# Altium footprint library pga_socket_square_208pin_17x17_minus_9x9.PcbLib: 2 footprints
Each footprint in its own frame and in the unit in brackets; x right, y up, seen from the top. Pads: shape width x height; smd on the part's side, far side on the other; paste and mask are expansions set on the pad; w line width, h text height; cw(c..) or ccw(c..) is an arc to the next point about the centre after c.
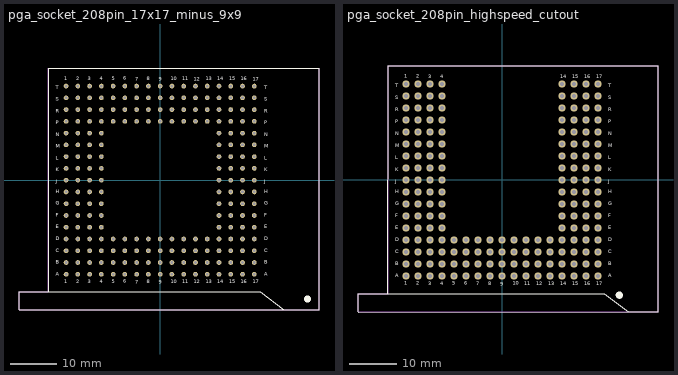
[diagram p0: the footprints below, top view; thin cyan lines are the x and y axes]

## pga_socket_208pin_17x17_minus_9x9 [mil]
pads (208):
  round 40 hole 22: A1(-800,-800) A2(-700,-800) A3(-600,-800) A4(-500,-800) A5(-400,-800) A6(-300,-800) A7(-200,-800) A8(-100,-800) A9(0,-800) A10(100,-800) A11(200,-800) A12(300,-800) A13(400,-800) A14(500,-800) A15(600,-800) A16(700,-800) A17(800,-800) B1(-800,-700) B2(-700,-700) B3(-600,-700) B4(-500,-700) B5(-400,-700) B6(-300,-700) B7(-200,-700) B8(-100,-700) B9(0,-700) B10(100,-700) B11(200,-700) B12(300,-700) B13(400,-700) B14(500,-700) B15(600,-700) B16(700,-700) B17(800,-700) C1(-800,-600) C2(-700,-600) C3(-600,-600) C4(-500,-600) C5(-400,-600) C6(-300,-600) C7(-200,-600) C8(-100,-600) C9(0,-600) C10(100,-600) C11(200,-600) C12(300,-600) C13(400,-600) C14(500,-600) C15(600,-600) C16(700,-600) C17(800,-600) D1(-800,-500) D2(-700,-500) D3(-600,-500) D4(-500,-500) D5(-400,-500) D6(-300,-500) D7(-200,-500) D8(-100,-500) D9(0,-500) D10(100,-500) D11(200,-500) D12(300,-500) D13(400,-500) D14(500,-500) D15(600,-500) D16(700,-500) D17(800,-500) E1(-800,-400) E2(-700,-400) E3(-600,-400) E4(-500,-400) E14(500,-400) E15(600,-400) E16(700,-400) E17(800,-400) F1(-800,-300) F2(-700,-300) F3(-600,-300) F4(-500,-300) F14(500,-300) F15(600,-300) F16(700,-300) F17(800,-300) G1(-800,-200) G2(-700,-200) G3(-600,-200) G4(-500,-200) G14(500,-200) G15(600,-200) G16(700,-200) G17(800,-200) H1(-800,-100) H2(-700,-100) H3(-600,-100) H4(-500,-100) H14(500,-100) H15(600,-100) H16(700,-100) H17(800,-100) J1(-800,0) J2(-700,0) J3(-600,0) J4(-500,0) J14(500,0) J15(600,0) J16(700,0) J17(800,0) K1(-800,100) K2(-700,100) K3(-600,100) K4(-500,100) K14(500,100) K15(600,100) K16(700,100) K17(800,100) L1(-800,200) L2(-700,200) L3(-600,200) L4(-500,200) L14(500,200) L15(600,200) L16(700,200) L17(800,200) M1(-800,300) M2(-700,300) M3(-600,300) M4(-500,300) M14(500,300) M15(600,300) M16(700,300) M17(800,300) N1(-800,400) N2(-700,400) N3(-600,400) N4(-500,400) N14(500,400) N15(600,400) N16(700,400) N17(800,400) P1(-800,500) P2(-700,500) P3(-600,500) P4(-500,500) P5(-400,500) P6(-300,500) P7(-200,500) P8(-100,500) P9(0,500) P10(100,500) P11(200,500) P12(300,500) P13(400,500) P14(500,500) P15(600,500) P16(700,500) P17(800,500) R1(-800,600) R2(-700,600) R3(-600,600) R4(-500,600) R5(-400,600) R6(-300,600) R7(-200,600) R8(-100,600) R9(0,600) R10(100,600) R11(200,600) R12(300,600) R13(400,600) R14(500,600) R15(600,600) R16(700,600) R17(800,600) S1(-800,700) S2(-700,700) S3(-600,700) S4(-500,700) S5(-400,700) S6(-300,700) S7(-200,700) S8(-100,700) S9(0,700) S10(100,700) S11(200,700) S12(300,700) S13(400,700) S14(500,700) S15(600,700) S16(700,700) S17(800,700) T1(-800,800) T2(-700,800) T3(-600,800) T4(-500,800) T5(-400,800) T6(-300,800) T7(-200,800) T8(-100,800) T9(0,800) T10(100,800) T11(200,800) T12(300,800) T13(400,800) T14(500,800) T15(600,800) T16(700,800) T17(800,800)
Top Overlay:
  circle w30: c1252.5,-1010 r15
  lines w10: 1050,-1100 850,-950 -950,-950 ; -950,-950 -1200,-950 -1200,-1100 1350,-1100 1350,950 -950,950 -950,-950
  text "17" at 786.25,847.19 h31.25
  text "14" at 486.25,849.53 h31.25
  text "13" at 386.25,847.97 h31.25
  text "9" at -13.75,845.62 h31.25
  text "10" at 89.38,850.31 h31.25
  text "5" at -413.75,850.31 h31.25
  text "16" at 686.25,849.53 h31.25
  text "15" at 586.25,849.53 h31.25
  text "12" at 286.25,847.19 h31.25
  text "11" at 186.25,849.53 h31.25
  text "8" at -113.75,849.53 h31.25
  text "7" at -213.75,846.41 h31.25
  text "6" at -313.75,851.88 h31.25
  text "4" at -513.75,849.53 h31.25
  text "3" at -613.75,849.53 h31.25
  text "2" at -713.75,850.31 h31.25
  text "1" at -813.75,850.31 h31.25
  text "B" at -888.75,-710.62 h31.25
  text "C" at -888.75,-610.62 h31.25
  text "F" at -888.75,-310.62 h31.25
  text "G" at -888.75,-210.62 h31.25
  text "L" at -888.75,173.75 h31.25
  text "M" at -888.75,273.75 h31.25
  text "R" at -888.75,573.75 h31.25
  text "S" at -888.75,673.75 h31.25
  text "A" at -888.75,-810.62 h31.25
  text "E" at -888.75,-410.62 h31.25
  text "D" at -888.75,-510.62 h31.25
  text "H" at -888.75,-110.62 h31.25
  text "J" at -888.75,-26.25 h31.25
  text "K" at -888.75,73.75 h31.25
  text "P" at -888.75,473.75 h31.25
  text "N" at -888.75,373.75 h31.25
  text "T" at -888.75,773.75 h31.25
  text "1" at -813.75,-874.69 h31.25
  text "2" at -713.75,-874.69 h31.25
  text "3" at -613.75,-875.47 h31.25
  text "4" at -513.75,-875.47 h31.25
  text "6" at -313.75,-873.12 h31.25
  text "7" at -213.75,-878.59 h31.25
  text "8" at -113.75,-875.47 h31.25
  text "11" at 186.25,-875.47 h31.25
  text "12" at 286.25,-877.81 h31.25
  text "15" at 586.25,-875.47 h31.25
  text "16" at 686.25,-875.47 h31.25
  text "5" at -413.75,-874.69 h31.25
  text "10" at 89.38,-874.69 h31.25
  text "9" at -13.75,-879.38 h31.25
  text "13" at 386.25,-877.03 h31.25
  text "14" at 486.25,-875.47 h31.25
  text "17" at 786.25,-877.81 h31.25
  text "T" at 886.25,773.75 h31.25
  text "N" at 886.25,373.75 h31.25
  text "P" at 886.25,473.75 h31.25
  text "K" at 886.25,73.75 h31.25
  text "J" at 886.25,-26.25 h31.25
  text "H" at 886.25,-110.62 h31.25
  text "D" at 886.25,-510.62 h31.25
  text "E" at 886.25,-410.62 h31.25
  text "A" at 886.25,-810.62 h31.25
  text "S" at 886.25,673.75 h31.25
  text "R" at 886.25,573.75 h31.25
  text "M" at 886.25,273.75 h31.25
  text "L" at 886.25,173.75 h31.25
  text "G" at 886.25,-210.62 h31.25
  text "F" at 886.25,-310.62 h31.25
  text "C" at 886.25,-610.62 h31.25
  text "B" at 886.25,-710.62 h31.25
Bottom Overlay:
  circle w30: c1252.5,-1010 r15
  text "17" at 811.25,847.19 h31.25
  text "14" at 511.25,849.53 h31.25
  text "15" at 611.25,849.53 h31.25
  text "11" at 211.25,849.53 h31.25
  text "12" at 311.25,847.19 h31.25
  text "8" at -88.75,849.53 h31.25
  text "9" at 11.25,845.62 h31.25
  text "5" at -388.75,850.31 h31.25
  text "6" at -288.75,851.88 h31.25
  text "2" at -688.75,850.31 h31.25
  text "3" at -588.75,849.53 h31.25
  text "10" at 114.38,850.31 h31.25
  text "13" at 411.25,847.97 h31.25
  text "16" at 711.25,849.53 h31.25
  text "4" at -488.75,849.53 h31.25
  text "7" at -188.75,846.41 h31.25
  text "1" at -788.75,850.31 h31.25
  text "A" at 911.25,-810.62 h31.25
  text "D" at 911.25,-510.62 h31.25
  text "C" at 911.25,-610.62 h31.25
  text "G" at 911.25,-210.62 h31.25
  text "F" at 911.25,-310.62 h31.25
  text "K" at 911.25,73.75 h31.25
  text "J" at 911.25,-26.25 h31.25
  text "N" at 911.25,373.75 h31.25
  text "M" at 911.25,273.75 h31.25
  text "S" at 911.25,673.75 h31.25
  text "R" at 911.25,573.75 h31.25
  text "L" at 911.25,173.75 h31.25
  text "H" at 911.25,-110.62 h31.25
  text "E" at 911.25,-410.62 h31.25
  text "B" at 911.25,-710.62 h31.25
  text "T" at 911.25,773.75 h31.25
  text "P" at 911.25,473.75 h31.25
  text "P" at -863.75,473.75 h31.25
  text "T" at -863.75,773.75 h31.25
  text "B" at -863.75,-710.62 h31.25
  text "E" at -863.75,-410.62 h31.25
  text "H" at -863.75,-110.62 h31.25
  text "L" at -863.75,173.75 h31.25
  text "1" at -788.75,-874.69 h31.25
  text "7" at -188.75,-878.59 h31.25
  text "4" at -488.75,-875.47 h31.25
  text "16" at 711.25,-875.47 h31.25
  text "13" at 411.25,-877.03 h31.25
  text "10" at 114.38,-874.69 h31.25
  text "R" at -863.75,573.75 h31.25
  text "S" at -863.75,673.75 h31.25
  text "M" at -863.75,273.75 h31.25
  text "N" at -863.75,373.75 h31.25
  text "J" at -863.75,-26.25 h31.25
  text "K" at -863.75,73.75 h31.25
  text "F" at -863.75,-310.62 h31.25
  text "G" at -863.75,-210.62 h31.25
  text "C" at -863.75,-610.62 h31.25
  text "D" at -863.75,-510.62 h31.25
  text "A" at -863.75,-810.62 h31.25
  text "3" at -588.75,-875.47 h31.25
  text "2" at -688.75,-874.69 h31.25
  text "6" at -288.75,-873.12 h31.25
  text "5" at -388.75,-874.69 h31.25
  text "9" at 11.25,-879.38 h31.25
  text "8" at -88.75,-875.47 h31.25
  text "12" at 311.25,-877.81 h31.25
  text "11" at 211.25,-875.47 h31.25
  text "15" at 611.25,-875.47 h31.25
  text "14" at 511.25,-875.47 h31.25
  text "17" at 811.25,-877.81 h31.25
Mechanical 1:
  lines w6: -1200,-950 -950,-950 ; -1200,-950 -1200,-1100 1350,-1100 1350,950 -950,950 -950,-950 ; -1200,-950 -950,-950

## pga_socket_208pin_highspeed_cutout [mil]
pads (172):
  round 60 / inner round 40 / far side round 60 hole 32 mask+0: A1(-800,-800) A2(-700,-800) A3(-600,-800) A4(-500,-800) A5(-400,-800) A6(-300,-800) A7(-200,-800) A8(-100,-800) A9(0,-800) A10(100,-800) A11(200,-800) A12(300,-800) A13(400,-800) A14(500,-800) A15(600,-800) A16(700,-800) A17(800,-800) B1(-800,-700) B2(-700,-700) B3(-600,-700) B4(-500,-700) B5(-400,-700) B6(-300,-700) B7(-200,-700) B8(-100,-700) B9(0,-700) B10(100,-700) B11(200,-700) B12(300,-700) B13(400,-700) B14(500,-700) B15(600,-700) B16(700,-700) B17(800,-700) C1(-800,-600) C2(-700,-600) C3(-600,-600) C4(-500,-600) C5(-400,-600) C6(-300,-600) C7(-200,-600) C8(-100,-600) C9(0,-600) C10(100,-600) C11(200,-600) C12(300,-600) C13(400,-600) C14(500,-600) C15(600,-600) C16(700,-600) C17(800,-600) D1(-800,-500) D2(-700,-500) D3(-600,-500) D4(-500,-500) D5(-400,-500) D6(-300,-500) D7(-200,-500) D8(-100,-500) D9(0,-500) D10(100,-500) D11(200,-500) D12(300,-500) D13(400,-500) D14(500,-500) D15(600,-500) D16(700,-500) D17(800,-500) E1(-800,-400) E2(-700,-400) E3(-600,-400) E4(-500,-400) E14(500,-400) E15(600,-400) E16(700,-400) E17(800,-400) F1(-800,-300) F2(-700,-300) F3(-600,-300) F4(-500,-300) F14(500,-300) F15(600,-300) F16(700,-300) F17(800,-300) G1(-800,-200) G2(-700,-200) G3(-600,-200) G4(-500,-200) G14(500,-200) G15(600,-200) G16(700,-200) G17(800,-200) H1(-800,-100) H2(-700,-100) H3(-600,-100) H4(-500,-100) H14(500,-100) H15(600,-100) H16(700,-100) H17(800,-100) J1(-800,0) J2(-700,0) J3(-600,0) J4(-500,0) J14(500,0) J15(600,0) J16(700,0) J17(800,0) K1(-800,100) K2(-700,100) K3(-600,100) K4(-500,100) K14(500,100) K15(600,100) K16(700,100) K17(800,100) L1(-800,200) L2(-700,200) L3(-600,200) L4(-500,200) L14(500,200) L15(600,200) L16(700,200) L17(800,200) M1(-800,300) M2(-700,300) M3(-600,300) M4(-500,300) M14(500,300) M15(600,300) M16(700,300) M17(800,300) N1(-800,400) N2(-700,400) N3(-600,400) N4(-500,400) N14(500,400) N15(600,400) N16(700,400) N17(800,400) P1(-800,500) P2(-700,500) P3(-600,500) P4(-500,500) P14(500,500) P15(600,500) P16(700,500) P17(800,500) R1(-800,600) R2(-700,600) R3(-600,600) R4(-500,600) R14(500,600) R15(600,600) R16(700,600) R17(800,600) S1(-800,700) S2(-700,700) S3(-600,700) S4(-500,700) S14(500,700) S15(600,700) S16(700,700) S17(800,700) T1(-800,800) T2(-700,800) T3(-600,800) T4(-500,800) T14(500,800) T15(600,800) T16(700,800) T17(800,800)
Top Overlay:
  circle w30: c977.5,-960 r15
  lines w10: -950,-950 850,-950 1050,-1100 ; -950,-950 -1200,-950 -1200,-1100 1050,-1100 ; -950,-950 -950,950 1300,950 1300,-1100 1050,-1100
  text "B" at 886.25,-710.62 h31.25
  text "C" at 886.25,-610.62 h31.25
  text "F" at 886.25,-310.62 h31.25
  text "G" at 886.25,-210.62 h31.25
  text "L" at 886.25,173.75 h31.25
  text "M" at 886.25,273.75 h31.25
  text "R" at 886.25,573.75 h31.25
  text "S" at 886.25,673.75 h31.25
  text "A" at 886.25,-810.62 h31.25
  text "E" at 886.25,-410.62 h31.25
  text "D" at 886.25,-510.62 h31.25
  text "H" at 886.25,-110.62 h31.25
  text "J" at 886.25,-26.25 h31.25
  text "K" at 886.25,73.75 h31.25
  text "P" at 886.25,473.75 h31.25
  text "N" at 886.25,373.75 h31.25
  text "T" at 886.25,773.75 h31.25
  text "17" at 786.25,-877.81 h31.25
  text "14" at 486.25,-875.47 h31.25
  text "13" at 386.25,-877.03 h31.25
  text "9" at -13.75,-879.38 h31.25
  text "10" at 89.38,-874.69 h31.25
  text "5" at -413.75,-874.69 h31.25
  text "16" at 686.25,-875.47 h31.25
  text "15" at 586.25,-875.47 h31.25
  text "12" at 286.25,-877.81 h31.25
  text "11" at 186.25,-875.47 h31.25
  text "8" at -113.75,-875.47 h31.25
  text "7" at -213.75,-878.59 h31.25
  text "6" at -313.75,-873.12 h31.25
  text "4" at -513.75,-875.47 h31.25
  text "3" at -613.75,-875.47 h31.25
  text "2" at -713.75,-874.69 h31.25
  text "1" at -813.75,-874.69 h31.25
  text "T" at -888.75,773.75 h31.25
  text "N" at -888.75,373.75 h31.25
  text "P" at -888.75,473.75 h31.25
  text "K" at -888.75,73.75 h31.25
  text "J" at -888.75,-26.25 h31.25
  text "H" at -888.75,-110.62 h31.25
  text "D" at -888.75,-510.62 h31.25
  text "E" at -888.75,-410.62 h31.25
  text "A" at -888.75,-810.62 h31.25
  text "S" at -888.75,673.75 h31.25
  text "R" at -888.75,573.75 h31.25
  text "M" at -888.75,273.75 h31.25
  text "L" at -888.75,173.75 h31.25
  text "G" at -888.75,-210.62 h31.25
  text "F" at -888.75,-310.62 h31.25
  text "C" at -888.75,-610.62 h31.25
  text "B" at -888.75,-710.62 h31.25
  text "1" at -813.75,850.31 h31.25
  text "2" at -713.75,850.31 h31.25
  text "3" at -613.75,849.53 h31.25
  text "4" at -513.75,849.53 h31.25
  text "15" at 586.25,849.53 h31.25
  text "16" at 686.25,849.53 h31.25
  text "14" at 486.25,849.53 h31.25
  text "17" at 786.25,847.19 h31.25
Bottom Overlay:
  circle w30: c977.5,-960 r15
  text "17" at 811.25,-877.81 h31.25
  text "14" at 511.25,-875.47 h31.25
  text "15" at 611.25,-875.47 h31.25
  text "11" at 211.25,-875.47 h31.25
  text "12" at 311.25,-877.81 h31.25
  text "8" at -88.75,-875.47 h31.25
  text "9" at 11.25,-879.38 h31.25
  text "5" at -388.75,-874.69 h31.25
  text "6" at -288.75,-873.12 h31.25
  text "2" at -688.75,-874.69 h31.25
  text "3" at -588.75,-875.47 h31.25
  text "A" at -863.75,-810.62 h31.25
  text "D" at -863.75,-510.62 h31.25
  text "C" at -863.75,-610.62 h31.25
  text "G" at -863.75,-210.62 h31.25
  text "F" at -863.75,-310.62 h31.25
  text "K" at -863.75,73.75 h31.25
  text "J" at -863.75,-26.25 h31.25
  text "N" at -863.75,373.75 h31.25
  text "M" at -863.75,273.75 h31.25
  text "S" at -863.75,673.75 h31.25
  text "R" at -863.75,573.75 h31.25
  text "10" at 114.38,-874.69 h31.25
  text "13" at 411.25,-877.03 h31.25
  text "16" at 711.25,-875.47 h31.25
  text "4" at -488.75,-875.47 h31.25
  text "7" at -188.75,-878.59 h31.25
  text "1" at -788.75,-874.69 h31.25
  text "L" at -863.75,173.75 h31.25
  text "H" at -863.75,-110.62 h31.25
  text "E" at -863.75,-410.62 h31.25
  text "B" at -863.75,-710.62 h31.25
  text "T" at -863.75,773.75 h31.25
  text "P" at -863.75,473.75 h31.25
  text "P" at 911.25,473.75 h31.25
  text "T" at 911.25,773.75 h31.25
  text "B" at 911.25,-710.62 h31.25
  text "E" at 911.25,-410.62 h31.25
  text "H" at 911.25,-110.62 h31.25
  text "L" at 911.25,173.75 h31.25
  text "R" at 911.25,573.75 h31.25
  text "S" at 911.25,673.75 h31.25
  text "M" at 911.25,273.75 h31.25
  text "N" at 911.25,373.75 h31.25
  text "J" at 911.25,-26.25 h31.25
  text "K" at 911.25,73.75 h31.25
  text "F" at 911.25,-310.62 h31.25
  text "G" at 911.25,-210.62 h31.25
  text "C" at 911.25,-610.62 h31.25
  text "D" at 911.25,-510.62 h31.25
  text "A" at 911.25,-810.62 h31.25
  text "1" at -788.75,850.31 h31.25
  text "4" at -488.75,849.53 h31.25
  text "16" at 711.25,849.53 h31.25
  text "3" at -588.75,849.53 h31.25
  text "2" at -688.75,850.31 h31.25
  text "15" at 611.25,849.53 h31.25
  text "14" at 511.25,849.53 h31.25
  text "17" at 811.25,847.19 h31.25
Mechanical 1:
  lines w6: -1200,-950 -950,-950 ; -1200,-950 -1200,-1100 1300,-1100 1300,950 -950,950 -950,-950 ; -1200,-950 -950,-950